# Altium schematic symbol library sharp.SCHLIB: 5 symbols
Pins are listed as number, name and electrical type; pins without a type are passive.

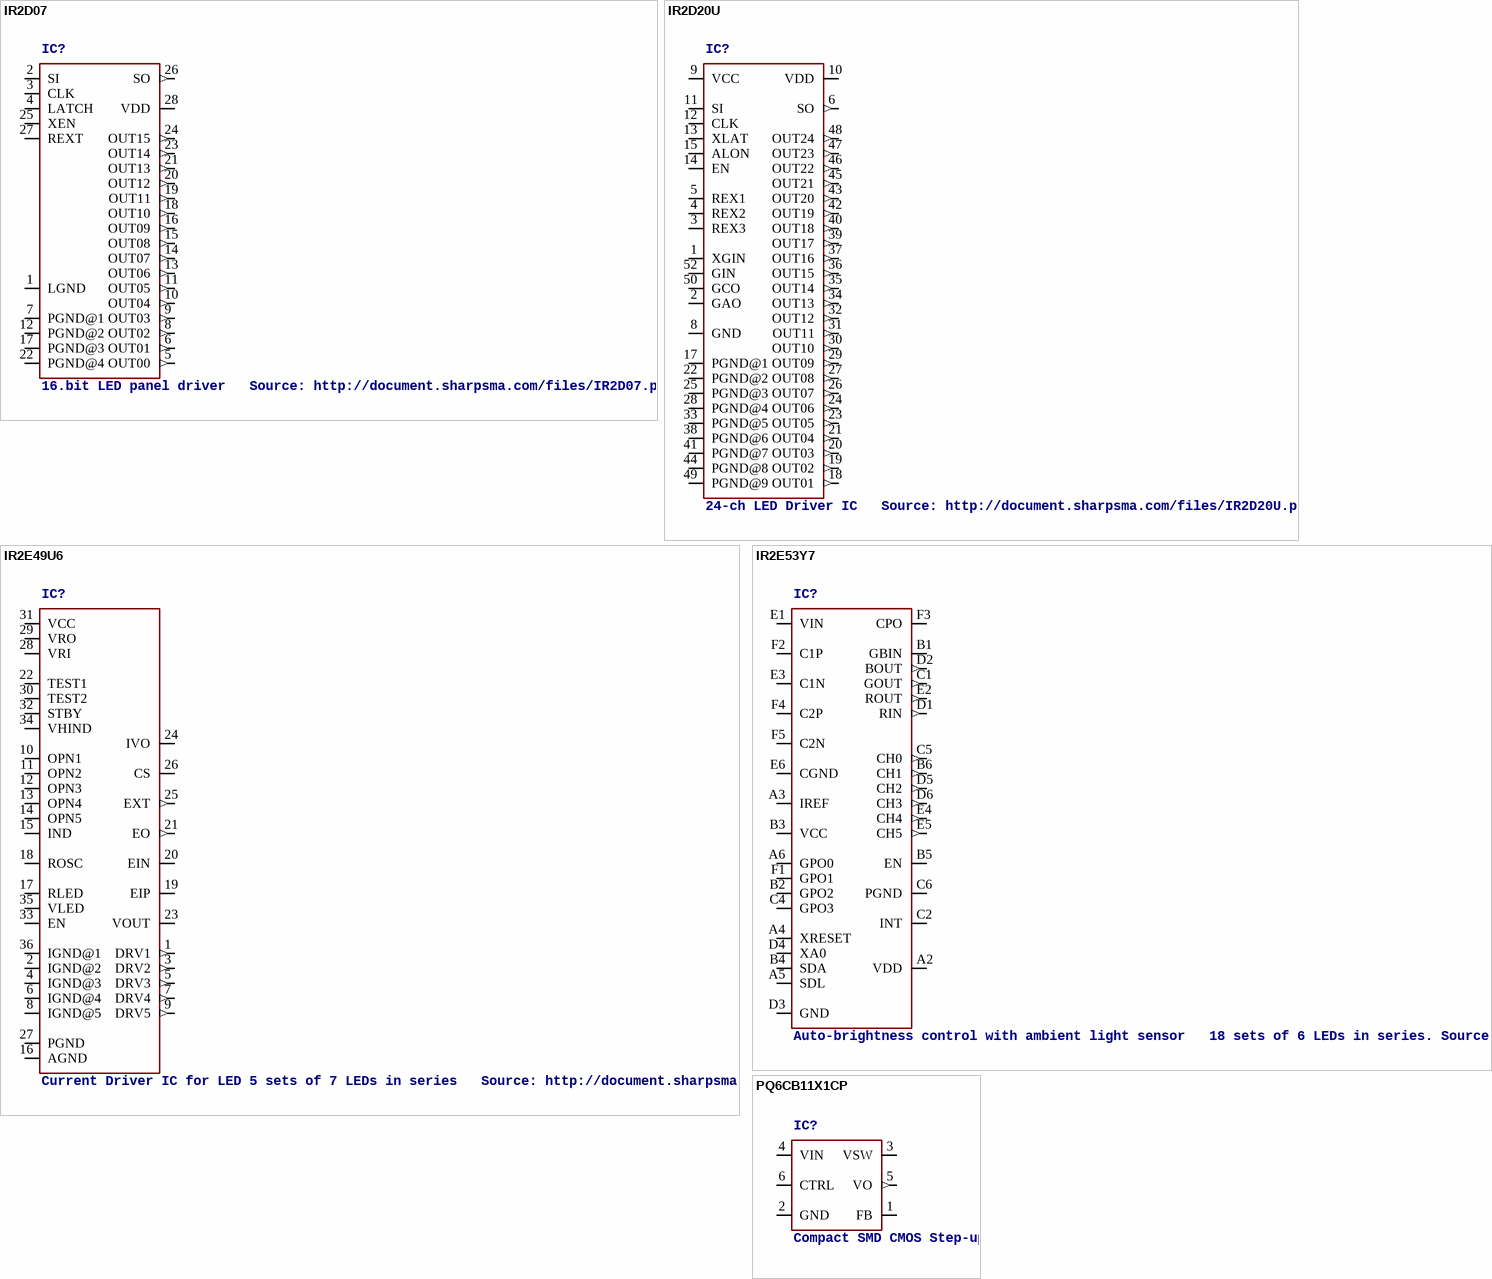
[diagram p0: symbols IR2D07 to PQ6CB11X1CP]

## IR2D07
designator IC?, comment 16.bit LED panel driver   Source: http://document.sharpsma.com/files/IR2D07.pdf
OC_FARNELL: unknown; OC_NEWARK: unknown
footprint DIL28-4
pins: 1 LGND (power), 2 SI, 3 CLK, 4 LATCH, 5 OUT00 (out), 6 OUT01 (out), 7 PGND@1 (power), 8 OUT02 (out), 9 OUT03 (out), 10 OUT04 (out), 11 OUT05 (out), 12 PGND@2 (power), 13 OUT06 (out), 14 OUT07 (out), 15 OUT08 (out), 16 OUT09 (out), 17 PGND@3 (power), 18 OUT10 (out), 19 OUT11 (out), 20 OUT12 (out), 21 OUT13 (out), 22 PGND@4 (power), 23 OUT14 (out), 24 OUT15 (out), 25 XEN, 26 SO (out), 27 REXT, 28 VDD (power)

## IR2D20U
designator IC?, comment 24-ch LED Driver IC   Source: http://document.sharpsma.com/files/IR2D20U.pdf
OC_FARNELL: unknown; OC_NEWARK: unknown
footprint HQFN052
pins: 1 XGIN, 2 GAO, 3 REX3, 4 REX2, 5 REX1, 6 SO (out), 8 GND (power), 9 VCC (power), 10 VDD (power), 11 SI, 12 CLK, 13 XLAT, 14 EN, 15 ALON, 17 PGND@1 (power), 18 OUT01 (out), 19 OUT02 (out), 20 OUT03 (out), 21 OUT04 (out), 22 PGND@2 (power), 23 OUT05 (out), 24 OUT06 (out), 25 PGND@3 (power), 26 OUT07 (out), 27 OUT08 (out), 28 PGND@4 (power), 29 OUT09 (out), 30 OUT10 (out), 31 OUT11 (out), 32 OUT12 (out), 33 PGND@5 (power), 34 OUT13 (out), 35 OUT14 (out), 36 OUT15 (out), 37 OUT16 (out), 38 PGND@6 (power), 39 OUT17 (out), 40 OUT18 (out), 41 PGND@7 (power), 42 OUT19 (out), 43 OUT20 (out), 44 PGND@8 (power), 45 OUT21 (out), 46 OUT22 (out), 47 OUT23 (out), 48 OUT24 (out), 49 PGND@9 (power), 50 GCO, 52 GIN

## IR2E49U6
designator IC?, comment Current Driver IC for LED 5 sets of 7 LEDs in series   Source: http://document.sharpsma.com/files/IR2E49U6.pdf
OC_FARNELL: unknown; OC_NEWARK: unknown
footprint VQFN036-P-0606
pins: 1 DRV1 (out), 2 IGND@2 (power), 3 DRV2 (out), 4 IGND@3 (power), 5 DRV3 (out), 6 IGND@4 (power), 7 DRV4 (out), 8 IGND@5 (power), 9 DRV5 (out), 10 OPN1, 11 OPN2, 12 OPN3, 13 OPN4, 14 OPN5, 15 IND, 16 AGND (power), 17 RLED, 18 ROSC, 19 EIP, 20 EIN, 21 EO (out), 22 TEST1, 23 VOUT, 24 IVO, 25 EXT (out), 26 CS, 27 PGND (power), 28 VRI, 29 VRO, 30 TEST2, 31 VCC (power), 32 STBY, 33 EN, 34 VHIND, 35 VLED, 36 IGND@1 (power)

## IR2E53Y7
designator IC?, comment Auto-brightness control with ambient light sensor   18 sets of 6 LEDs in series. Source: http://document.sharpsma.com/files/IR2E53Y7.pdf
OC_FARNELL: unknown; OC_NEWARK: unknown
footprint WLP035-X-3636
pins: A2 VDD (power), A3 IREF, A4 XRESET, A5 SDL, A6 GPO0, B1 GBIN, B2 GPO2, B3 VCC (power), B4 SDA, B5 EN, B6 CH1 (out), C1 GOUT (out), C2 INT, C4 GPO3, C5 CH0 (out), C6 PGND, D1 RIN (out), D2 BOUT (out), D3 GND (power), D4 XA0, D5 CH2 (out), D6 CH3 (out), E1 VIN, E2 ROUT (out), E3 C1N, E4 CH4 (out), E5 CH5 (out), E6 CGND (power), F1 GPO1, F2 C1P, F3 CPO, F4 C2P, F5 C2N

## PQ6CB11X1CP
designator IC?, comment Compact SMD CMOS Step-up LED Driver 6 LEDs in series   Source: http://document.sharpsma.com/files/PQ6CB11X1CP.pdf
OC_FARNELL: unknown; OC_NEWARK: unknown
footprint PQ6CB11X1CP
pins: 1 FB, 2 GND (power), 3 VSW, 4 VIN, 5 VO (out), 6 CTRL